# Altium schematic symbol library NVD5C454NT4G.SchLib: 1 symbol
Pins are listed as number, name and electrical type; pins without a type are passive.

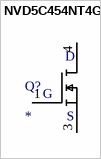
[diagram p0: symbol NVD5C454NT4G]

## NVD5C454NT4G
designator Q?
MOSFET (N-Channel); Manufacturer_Name: ON Semiconductor; Manufacturer_Part_Number: NVD5C454NT4G; Datasheet Link: http://www.onsemi.com/pub/Collateral/NVD5C454N-D.PDF; Mouser Part Number: 863-NVD5C454NT4G; Mouser Price/Stock: https://www.mouser.com/Search/Refine.aspx?Keyword=863-NVD5C454NT4G; RS Part Number: 1784640; RS Price/Stock: https://uk.rs-online.com/web/p/products/1784640
footprint DPAK_(SINGLE-GAUGE)_TO-252(369C)_ISSUE_F
pins: 1 G, 3 S, 4 D